# Altium schematic symbol library 蓝宙电子锋速系列主板封装库.SCHLIB: 35 symbols
Pins are listed as number, name and electrical type; pins without a type are passive.

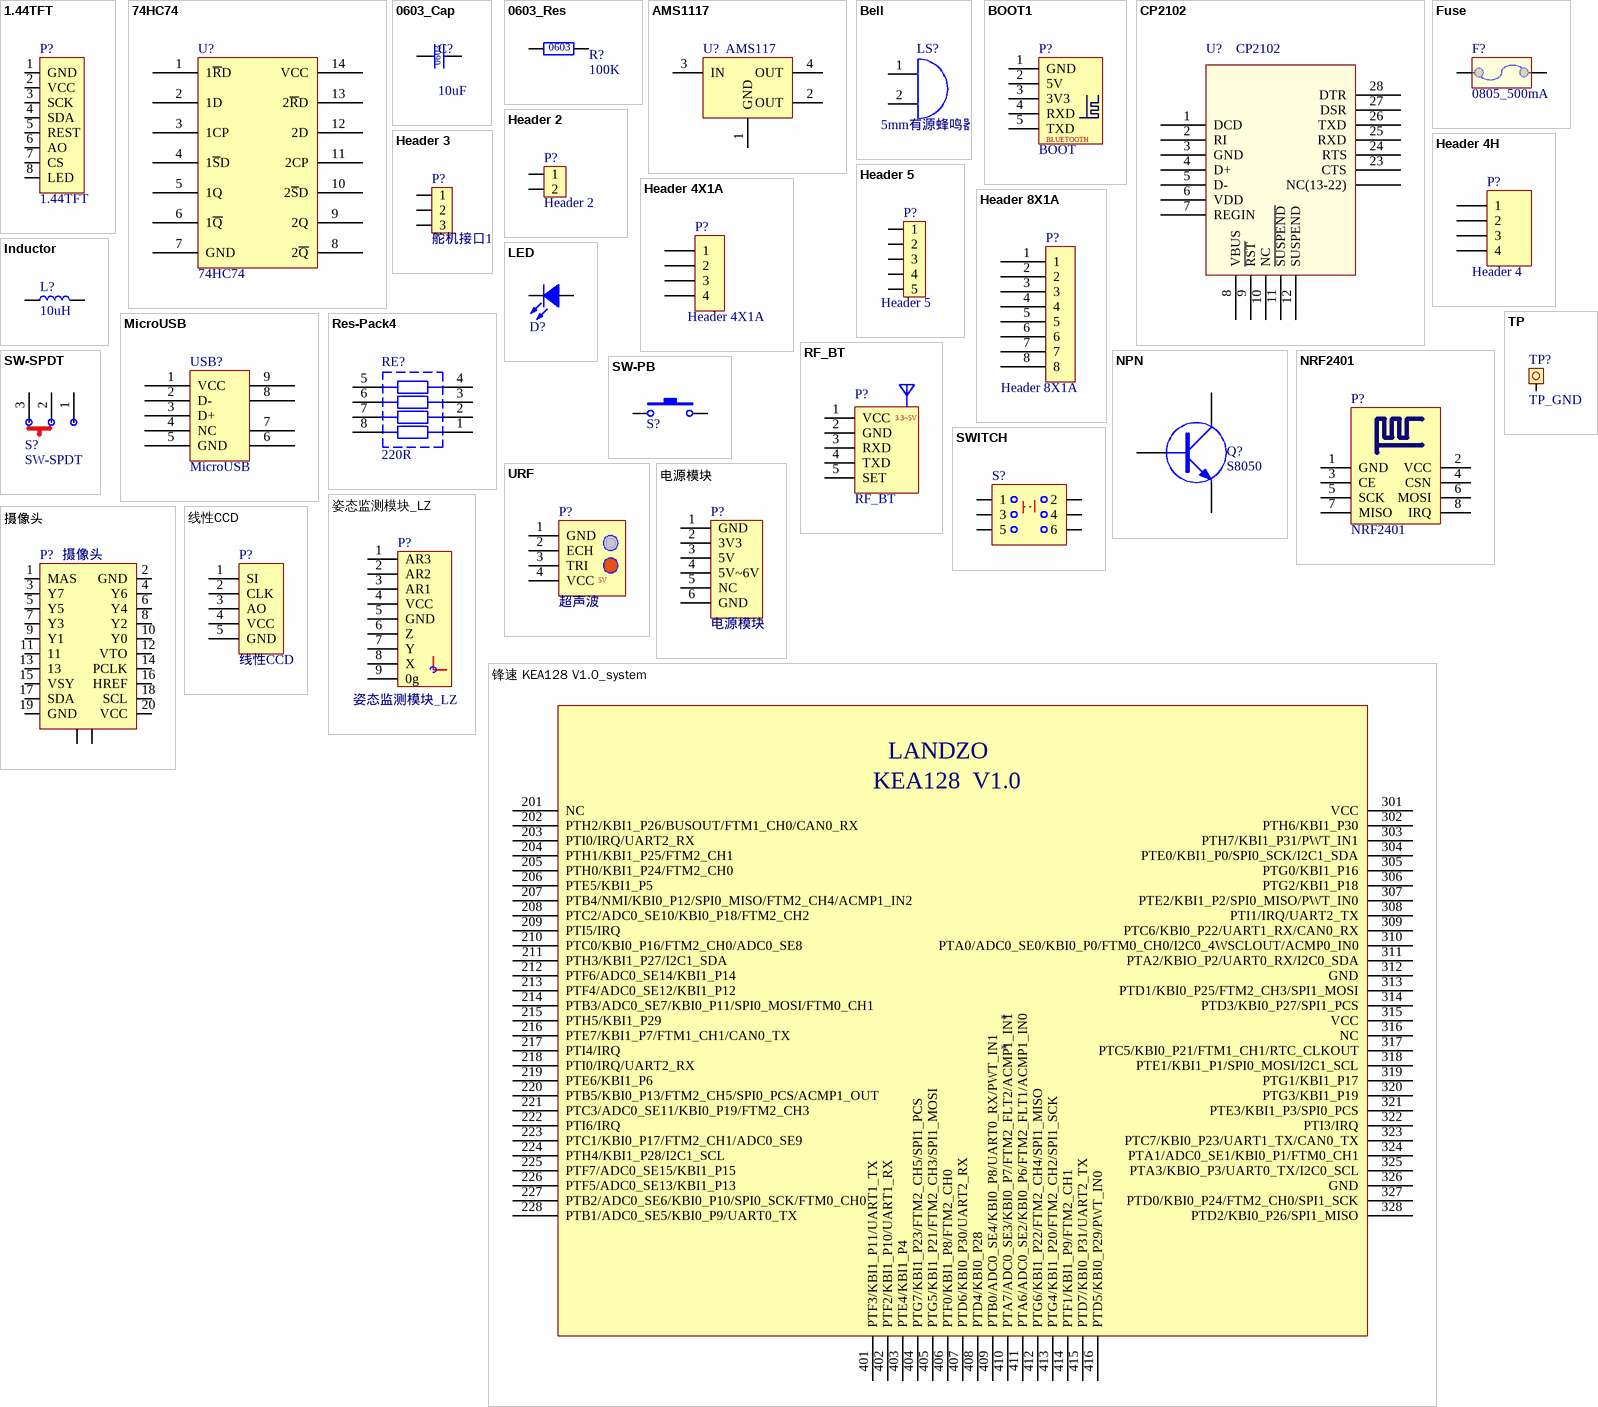
[diagram p0: symbols 1.44TFT to 锋速 KEA128 V1.0_system]

## 1.44TFT
designator P?
OLED display
pins: 1 GND, 2 VCC, 3 SCK, 4 SDA, 5 REST, 6 AO, 7 CS, 8 LED

## 74HC74
designator U?  (value not drawn)
footprint TSSOP14
pins: 1 1~{R}D, 2 1D, 3 1CP, 4 1~{S}D, 5 1Q, 6 1~{Q}, 7 GND, 8 2~{Q}, 9 2Q, 10 2~{S}D, 11 2CP, 12 2D, 13 2~{R}D, 14 VCC

## 0603_Cap
designator C?, comment 10uF
Capacitor
footprint 0603C
pins: 1, 2
text: 0603

## 0603_Res
designator R?, comment 100K
Resistor
footprint 0603R
pins: 1, 2
text: 0603

## AMS1117
designator U?, comment AMS117
LDO
pins: 1 GND, 2 OUT, 3 IN, 4 OUT

## Bell
designator LS?  (value not drawn)
Bell; Published: 24-Mar-1999; LatestRevisionDate: 17-Jul-2002; LatestRevisionNote: Re-released for DXP Platform.; PackageReference: PIN2; Publisher: Altium Limited
pins: 1 A, 2 B
text: 5mm有源蜂鸣器

## BOOT1
designator P?, comment BOOT
connector
pins: 1 GND "Cathode", 2 5V "Common Anode", 3 3V3 "Cathode", 4 RXD "Cathode", 5 TXD "Cathode"
text: BLUETOOTH

## CP2102
designator U?
pins: 1 DCD, 2 RI, 3 GND, 4 D+, 5 D-, 6 VDD, 7 REGIN, 8 VBUS, 9 ~{RST}, 10 NC, 11 ~{SUSPEND}, 12 SUSPEND, 23 CTS, 24 RTS, 25 RXD, 26 TXD, 27 DSR, 28 DTR, ?1 NC(13-22)

## Fuse
designator F?, comment 0805_500mA
Fuse
footprint 0805FUSE
pins: 1, 2

## Header 2
designator P?
Header, 2-Pin
footprint XH2.54_2P_弯
pins: 1, 2

## Header 3
designator P?, comment 舵机接口1
Header, 3-Pin
footprint CON_2.54_0.85mm
pins: 1, 2, 3

## Header 4H
designator P?, comment Header 4
Header, 4-Pin, Right Angle; LatestRevisionDate: 17-Jul-2002; LatestRevisionNote: Re-released for DXP Platform.; Publisher: Altium Limited
pins: 1, 2, 3, 4

## Header 4X1A
designator P?
Header, 4-Pin, Dual row; LatestRevisionDate: 17-Jul-2002; LatestRevisionNote: Re-released for DXP Platform.; Publisher: Altium Limited
pins: 1, 2, 3, 4

## Header 5
designator P?
Header, 5-Pin
pins: 1, 2, 3, 4, 5

## Header 8X1A
designator P?
Header, 4-Pin, Dual row; LatestRevisionDate: 17-Jul-2002; LatestRevisionNote: Re-released for DXP Platform.; Publisher: Altium Limited
pins: 1, 2, 3, 4, 5, 6, 7, 8

## Inductor
designator L?, comment 10uH
Inductor
footprint 0603L
pins: 1, 2

## LED
designator D?  (value not drawn)
Typical INFRARED GaAs LED
pins: 1, 2

## MicroUSB
designator USB?
pins: 1 VCC, 2 D-, 3 D+, 4 NC, 5 GND, 6, 7, 8, 9

## NPN
designator Q?, comment S8050
NPN Transistor
footprint TO-92B
footprint SOT-23
footprint TO-92_LZ
footprint TOT-23_LZ
footprint SOT-23 (SOT-23; 3 Leads; Body 3.1 x 2.5 mm, inc. leads (LxW max), Alternate Lead Configuration)
pins: 1 B, 2 E, 3 C

## NRF2401
designator P?
connector
pins: 1 GND "Cathode", 2 VCC "Cathode", 3 CE "Cathode", 4 CSN "Cathode", 5 SCK "Common Anode", 6 MOSI "Cathode", 7 MISO "Common Anode", 8 IRQ "Cathode"

## Res-Pack4
designator RE?, comment 220R
footprint RN8-0603
pins: 1 R1A, 2 R2A, 3 R3A, 4 R4A, 5 R4B, 6 R3B, 7 R2B, 8 R1B

## RF_BT
designator P?
connector
pins: 1 VCC "Common Anode", 2 GND "Cathode", 3 RXD "Cathode", 4 TXD "Cathode", 5 SET "Cathode"
text: 3.3~5V

## SW-PB
designator S?  (value not drawn)
Switch
footprint SMT_BUTTON
pins: 1, 2

## SW-SPDT
designator S?
SPDT Subminiature Toggle Switch, Right Angle Mounting, Vertical Actuation; Revision 1: Jul-2002: Re-released for DXP Platform.; Revision 2: 17-Dec-2003: Schematic revised, PCB Footprint replaced.; Published: 24-Mar-1999; Datasheet: Latest Revision: 05-Dec-2000; Publisher: Altium Limited
pins: 1, 2, 3

## SWITCH
designator S?  (value not drawn)
LatestRevisionDate: 17-Jul-2002; LatestRevisionNote: Re-released for DXP Platform.; Publisher: Altium Limited
pins: 1, 2, 3, 4, 5, 6

## TP
designator TP?, comment TP_GND
footprint TP1
pins: 1

## URF
designator P?, comment 超声波
connector
footprint XH2.54_4P
pins: 1 GND "Common Anode", 2 ECH "Cathode", 3 TRI "Cathode", 4 VCC "Cathode"
text: 5V

## 姿态监测模块_LZ
designator P?
connector
pins: 1 AR3, 2 AR2, 3 AR1, 4 VCC, 5 GND, 6 Z, 7 Y, 8 X, 9 0g

## 摄像头
designator P?
FPC connector
footprint FH12-20S-0.5SH
pins: 1 MAS, 2 GND, 3 Y7, 4 Y6, 5 Y5, 6 Y4, 7 Y3, 8 Y2, 9 Y1, 10 Y0, 11, 12 VTO, 13, 14 PCLK, 15 VSY, 16 HREF, 17 SDA, 18 SCL, 19 GND, 20 VCC, 21, 22

## 电源模块
designator P?
connector
footprint XH2.54_6P
pins: 1 GND, 2 3V3, 3 5V, 4 5V~6V, 5 NC, 6 GND

## 线性CCD
designator P?
connector
pins: 1 SI, 2 CLK, 3 AO, 4 VCC, 5 GND

## 锋速 KEA128 V1.0_system
designator *
pins: 201 NC, 202 PTH2/KBI1_P26/BUSOUT/FTM1_CH0/CAN0_RX, 203 PTI0/IRQ/UART2_RX, 204 PTH1/KBI1_P25/FTM2_CH1, 205 PTH0/KBI1_P24/FTM2_CH0, 206 PTE5/KBI1_P5, 207 PTB4/NMI/KBI0_P12/SPI0_MISO/FTM2_CH4/ACMP1_IN2, 208 PTC2/ADC0_SE10/KBI0_P18/FTM2_CH2, 209 PTI5/IRQ, 210 PTC0/KBI0_P16/FTM2_CH0/ADC0_SE8, 211 PTH3/KBI1_P27/I2C1_SDA, 212 PTF6/ADC0_SE14/KBI1_P14, 213 PTF4/ADC0_SE12/KBI1_P12, 214 PTB3/ADC0_SE7/KBI0_P11/SPI0_MOSI/FTM0_CH1, 215 PTH5/KBI1_P29, 216 PTE7/KBI1_P7/FTM1_CH1/CAN0_TX, 217 PTI4/IRQ, 218 PTI0/IRQ/UART2_RX, 219 PTE6/KBI1_P6, 220 PTB5/KBI0_P13/FTM2_CH5/SPI0_PCS/ACMP1_OUT, 221 PTC3/ADC0_SE11/KBI0_P19/FTM2_CH3, 222 PTI6/IRQ, 223 PTC1/KBI0_P17/FTM2_CH1/ADC0_SE9, 224 PTH4/KBI1_P28/I2C1_SCL, 225 PTF7/ADC0_SE15/KBI1_P15, 226 PTF5/ADC0_SE13/KBI1_P13, 227 PTB2/ADC0_SE6/KBI0_P10/SPI0_SCK/FTM0_CH0, 228 PTB1/ADC0_SE5/KBI0_P9/UART0_TX, 301 VCC, 302 PTH6/KBI1_P30, 303 PTH7/KBI1_P31/PWT_IN1, 304 PTE0/KBI1_P0/SPI0_SCK/I2C1_SDA, 305 PTG0/KBI1_P16, 306 PTG2/KBI1_P18, 307 PTE2/KBI1_P2/SPI0_MISO/PWT_IN0, 308 PTI1/IRQ/UART2_TX, 309 PTC6/KBI0_P22/UART1_RX/CAN0_RX, 310 PTA0/ADC0_SE0/KBI0_P0/FTM0_CH0/I2C0_4WSCLOUT/ACMP0_IN0, 311 PTA2/KBIO_P2/UART0_RX/I2C0_SDA, 312 GND, 313 PTD1/KBI0_P25/FTM2_CH3/SPI1_MOSI, 314 PTD3/KBI0_P27/SPI1_PCS, 315 VCC, 316 NC, 317 PTC5/KBI0_P21/FTM1_CH1/RTC_CLKOUT, 318 PTE1/KBI1_P1/SPI0_MOSI/I2C1_SCL, 319 PTG1/KBI1_P17, 320 PTG3/KBI1_P19, 321 PTE3/KBI1_P3/SPI0_PCS, 322 PTI3/IRQ, 323 PTC7/KBI0_P23/UART1_TX/CAN0_TX, 324 PTA1/ADC0_SE1/KBI0_P1/FTM0_CH1, 325 PTA3/KBIO_P3/UART0_TX/I2C0_SCL, 326 GND, 327 PTD0/KBI0_P24/FTM2_CH0/SPI1_SCK, 328 PTD2/KBI0_P26/SPI1_MISO, 401 PTF3/KBI1_P11/UART1_TX, 402 PTF2/KBI1_P10/UART1_RX, 403 PTE4/KBI1_P4, 404 PTG7/KBI1_P23/FTM2_CH5/SPI1_PCS, 405 PTG5/KBI1_P21/FTM2_CH3/SPI1_MOSI, 406 PTF0/KBI1_P8/FTM2_CH0, 407 PTD6/KBI0_P30/UART2_RX, 408 PTD4/KBI0_P28, 409 PTB0/ADC0_SE4/KBI0_P8/UART0_RX/PWT_IN1, 410 PTA7/ADC0_SE3/KBI0_P7/FTM2_FLT2/ACMP1_IN1, 411 PTA6/ADC0_SE2/KBI0_P6/FTM2_FLT1/ACMP1_IN0, 412 PTG6/KBI1_P22/FTM2_CH4/SPI1_MISO, 413 PTG4/KBI1_P20/FTM2_CH2/SPI1_SCK, 414 PTF1/KBI1_P9/FTM2_CH1, 415 PTD7/KBI0_P31/UART2_TX, 416 PTD5/KBI0_P29/PWT_IN0
text: LANDZO; KEA128  V1.0

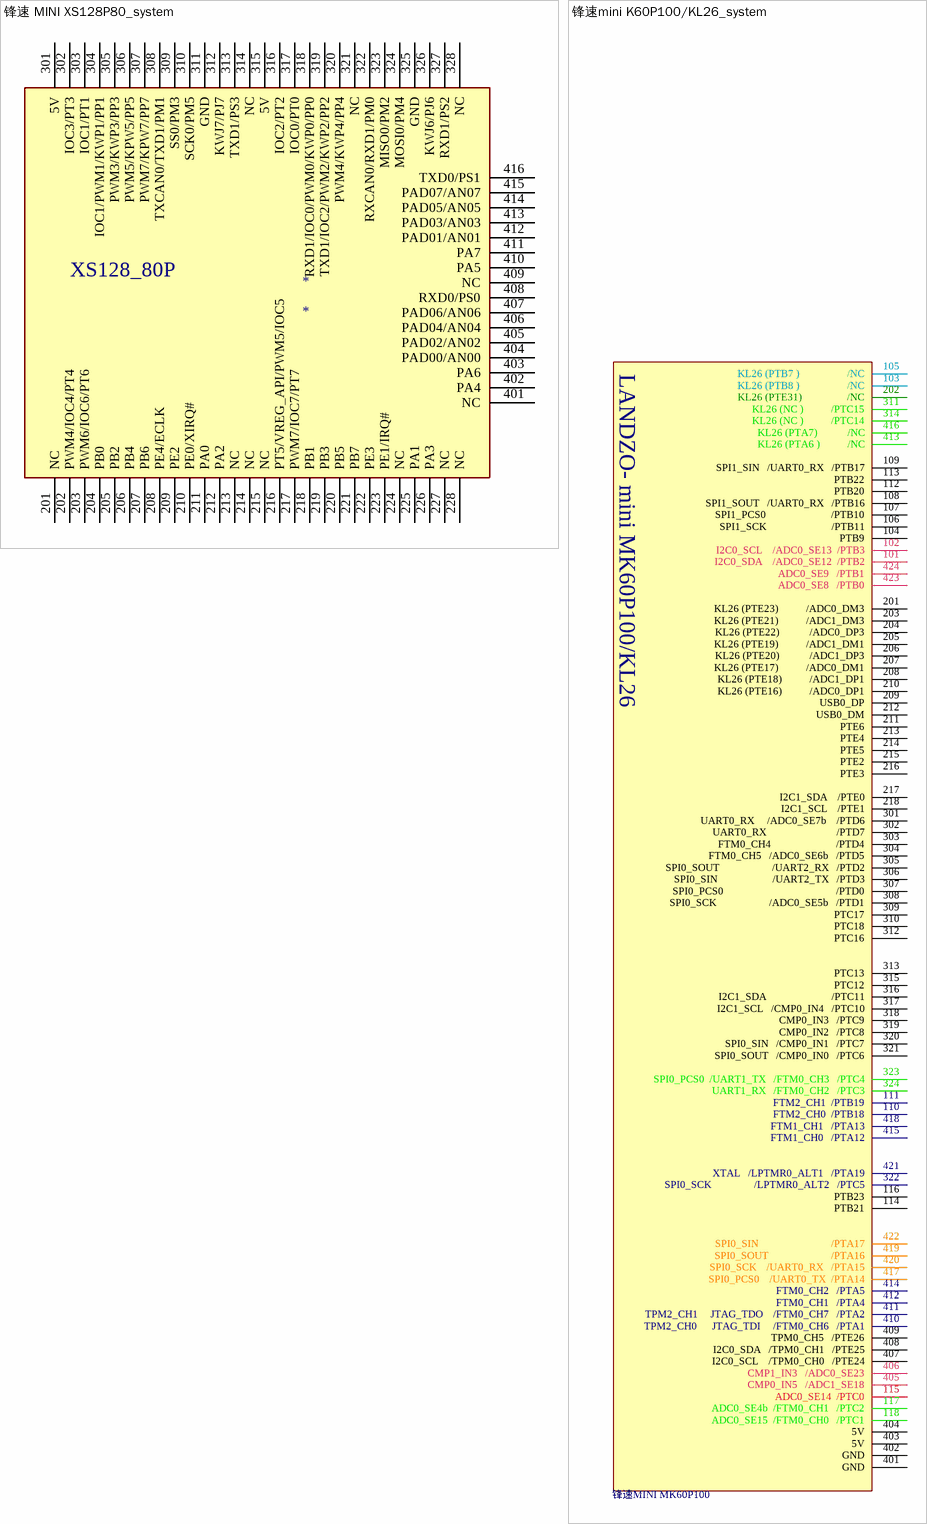
[diagram p1: symbols 锋速 MINI XS128P80_system to 锋速mini K60P100/KL26_system]

## 锋速 MINI XS128P80_system
designator *
pins: 201 NC, 202 PWM4/IOC4/PT4, 203 PWM6/IOC6/PT6, 204 PB0, 205 PB2, 206 PB4, 207 PB6, 208 PE4/ECLK, 209 PE2, 210 PE0/XIRQ#, 211 PA0, 212 PA2, 213 NC, 214 NC, 215 NC, 216 PT5/VREG_API/PWM5/IOC5, 217 PWM7/IOC7/PT7, 218 PB1, 219 PB3, 220 PB5, 221 PB7, 222 PE3, 223 PE1/IRQ#, 224 NC, 225 PA1, 226 PA3, 227 NC, 228 NC, 301 5V (power), 302 IOC3/PT3, 303 IOC1/PT1, 304 IOC1/PWM1/KWP1/PP1, 305 PWM3/KWP3/PP3, 306 PWM5/KPW5/PP5, 307 PWM7/KPW7/PP7, 308 TXCAN0/TXD1/PM1, 309 SS0/PM3, 310 SCK0/PM5, 311 GND (power), 312 KWJ7/PJ7, 313 TXD1/PS3, 314 NC (power), 315 5V (power), 316 IOC2/PT2, 317 IOC0/PT0, 318 RXD1/IOC0/PWM0/KWP0/PP0, 319 TXD1/IOC2/PWM2/KWP2/PP2, 320 PWM4/KWP4/PP4, 321 NC (power), 322 RXCAN0/RXD1/PM0, 323 MISO0/PM2, 324 MOSI0/PM4, 325 GND (power), 326 KWJ6/PJ6, 327 RXD1/PS2, 328 NC (power), 401 NC, 402 PA4, 403 PA6, 404 PAD00/AN00, 405 PAD02/AN02, 406 PAD04/AN04, 407 PAD06/AN06, 408 RXD0/PS0, 409 NC, 410 PA5, 411 PA7, 412 PAD01/AN01, 413 PAD03/AN03, 414 PAD05/AN05, 415 PAD07/AN07, 416 TXD0/PS1
text: XS128_80P

## 锋速mini K60P100/KL26_system
designator B?, comment 锋速MINI MK60P100
pins: 101 I2C0_SDA    /ADC0_SE12  /PTB2, 102 I2C0_SCL    /ADC0_SE13  /PTB3, 103 KL26 (PTB8 )                   /NC, 104 PTB9, 105 KL26 (PTB7 )                   /NC, 106 SPI1_SCK                          /PTB11 (power), 107 SPI1_PCS0                          /PTB10 (power), 108 SPI1_SOUT   /UART0_RX   /PTB16, 109 SPI1_SIN   /UART0_RX   /PTB17, 110 FTM2_CH0  /PTB18, 111 FTM2_CH1  /PTB19, 112 PTB20, 113 PTB22, 114 PTB21, 115 ADC0_SE14  /PTC0, 116 PTB23, 117 ADC0_SE4b  /FTM0_CH1   /PTC2, 118 ADC0_SE15  /FTM0_CH0   /PTC1, 201 KL26 (PTE23)           /ADC0_DM3, 202 KL26 (PTE31)                  /NC, 203 KL26 (PTE21)           /ADC1_DM3, 204 KL26 (PTE22)            /ADC0_DP3, 205 KL26 (PTE19)           /ADC1_DM1, 206 KL26 (PTE20)            /ADC1_DP3, 207 KL26 (PTE17)           /ADC0_DM1, 208 KL26 (PTE18)           /ADC1_DP1, 209 USB0_DP, 210 KL26 (PTE16)           /ADC0_DP1, 211 PTE6, 212 USB0_DM, 213 PTE4, 214 PTE5, 215 PTE2, 216 PTE3, 217 I2C1_SDA    /PTE0, 218 I2C1_SCL    /PTE1, 301 UART0_RX     /ADC0_SE7b    /PTD6, 302 UART0_RX                            /PTD7, 303 FTM0_CH4                          /PTD4, 304 FTM0_CH5   /ADC0_SE6b   /PTD5, 305 SPI0_SOUT                     /UART2_RX   /PTD2, 306 SPI0_SIN                      /UART2_TX   /PTD3, 307 SPI0_PCS0                                             /PTD0, 308 SPI0_SCK                     /ADC0_SE5b   /PTD1, 309 PTC17, 310 PTC18, 311 KL26 (NC )           /PTC15, 312 PTC16, 313 PTC13, 314 KL26 (NC )           /PTC14, 315 PTC12, 316 I2C1_SDA                          /PTC11, 317 I2C1_SCL   /CMP0_IN4   /PTC10, 318 CMP0_IN3   /PTC9, 319 CMP0_IN2   /PTC8, 320 SPI0_SIN   /CMP0_IN1   /PTC7, 321 SPI0_SOUT   /CMP0_IN0   /PTC6, 322 SPI0_SCK                 /LPTMR0_ALT2   /PTC5, 323 SPI0_PCS0  /UART1_TX   /FTM0_CH3   /PTC4, 324 UART1_RX   /FTM0_CH2   /PTC3, 401 GND (power), 402 GND (power), 403 5V (power), 404 5V (power), 405 CMP0_IN5   /ADC1_SE18, 406 CMP1_IN3   /ADC0_SE23, 407 I2C0_SCL    /TPM0_CH0   /PTE24, 408 I2C0_SDA   /TPM0_CH1   /PTE25, 409 TPM0_CH5   /PTE26, 410 TPM2_CH0      JTAG_TDI     /FTM0_CH6   /PTA1, 411 TPM2_CH1     JTAG_TDO    /FTM0_CH7   /PTA2, 412 FTM0_CH1   /PTA4, 413 KL26 (PTA6 )           /NC (power), 414 FTM0_CH2   /PTA5, 415 FTM1_CH0   /PTA12, 416 KL26 (PTA7)            /NC (power), 417 SPI0_PCS0    /UART0_TX  /PTA14, 418 FTM1_CH1   /PTA13, 419 SPI0_SOUT                         /PTA16, 420 SPI0_SCK    /UART0_RX   /PTA15, 421 XTAL   /LPTMR0_ALT1   /PTA19, 422 SPI0_SIN                             /PTA17, 423 ADC0_SE8   /PTB0, 424 ADC0_SE9   /PTB1
text: LANDZO- mini MK60P100/KL26

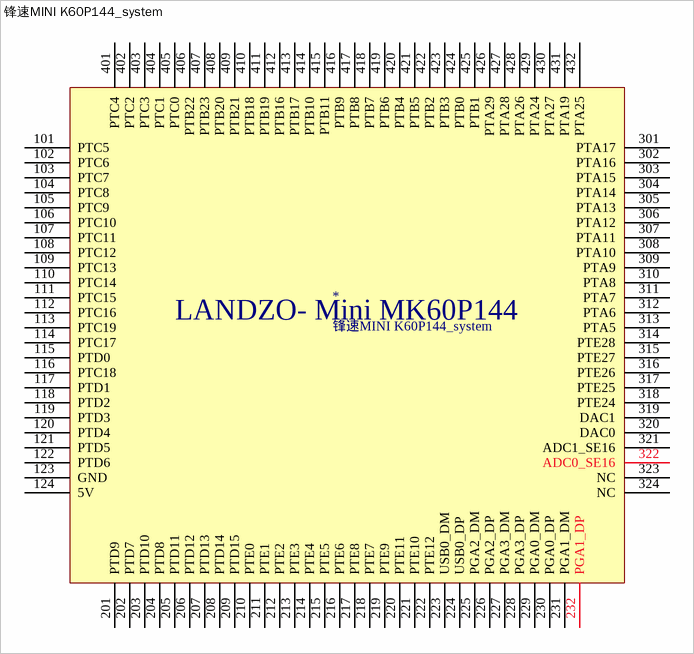
[diagram p2: symbol 锋速MINI K60P144_system]

## 锋速MINI K60P144_system
designator *
pins: 101 PTC5, 102 PTC6, 103 PTC7, 104 PTC8, 105 PTC9, 106 PTC10, 107 PTC11, 108 PTC12, 109 PTC13, 110 PTC14, 111 PTC15, 112 PTC16, 113 PTC19, 114 PTC17, 115 PTD0, 116 PTC18, 117 PTD1, 118 PTD2, 119 PTD3, 120 PTD4, 121 PTD5, 122 PTD6, 123 GND, 124 5V, 201 PTD9, 202 PTD7, 203 PTD10, 204 PTD8, 205 PTD11, 206 PTD12, 207 PTD13, 208 PTD14, 209 PTD15, 210 PTE0, 211 PTE1, 212 PTE2, 213 PTE3, 214 PTE4, 215 PTE5, 216 PTE6, 217 PTE8, 218 PTE7, 219 PTE9, 220 PTE11, 221 PTE10, 222 PTE12, 223 USB0_DM, 224 USB0_DP, 225 PGA2_DM, 226 PGA2_DP, 227 PGA3_DM, 228 PGA3_DP, 229 PGA0_DM, 230 PGA0_DP, 231 PGA1_DM, 232 PGA1_DP, 301 PTA17, 302 PTA16, 303 PTA15, 304 PTA14, 305 PTA13, 306 PTA12, 307 PTA11, 308 PTA10, 309 PTA9, 310 PTA8, 311 PTA7, 312 PTA6, 313 PTA5, 314 PTE28, 315 PTE27, 316 PTE26, 317 PTE25, 318 PTE24, 319 DAC1, 320 DAC0, 321 ADC1_SE16, 322 ADC0_SE16, 323 NC, 324 NC, 401 PTC4, 402 PTC2, 403 PTC3, 404 PTC1, 405 PTC0, 406 PTB22, 407 PTB23, 408 PTB20, 409 PTB21, 410 PTB18, 411 PTB19, 412 PTB16, 413 PTB17, 414 PTB10, 415 PTB11, 416 PTB9, 417 PTB8, 418 PTB7, 419 PTB6, 420 PTB4, 421 PTB5, 422 PTB2, 423 PTB3, 424 PTB0, 425 PTB1, 426 PTA29, 427 PTA28, 428 PTA26, 429 PTA24, 430 PTA27, 431 PTA19, 432 PTA25
text: LANDZO- Mini MK60P144